# Altium schematic symbol library TPS6120x.SchLib: 1 symbol
Pins are listed as number, name and electrical type; pins without a type are passive.

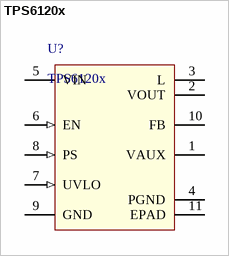
[diagram p0: symbol TPS6120x]

## TPS6120x
designator U?
Low Input Voltage Synchronous Boost Converter / With 1.3-A Switches; value: TPS6120x
footprint VSON-10-3x3 (Footprint not found)
pins: 1 VAUX, 2 VOUT (power), 3 L, 4 PGND (power), 5 VIN (power), 6 EN (in), 7 UVLO (in), 8 PS (in), 9 GND (power), 10 FB, 11 EPAD (power)